# Altium footprint library 100uF_500V.PcbLib: 1 footprints
Each footprint in its own frame and in the unit in brackets; x right, y up, seen from the top. Pads: shape width x height; smd on the part's side, far side on the other; paste and mask are expansions set on the pad; w line width, h text height; cw(c..) or ccw(c..) is an arc to the next point about the centre after c.
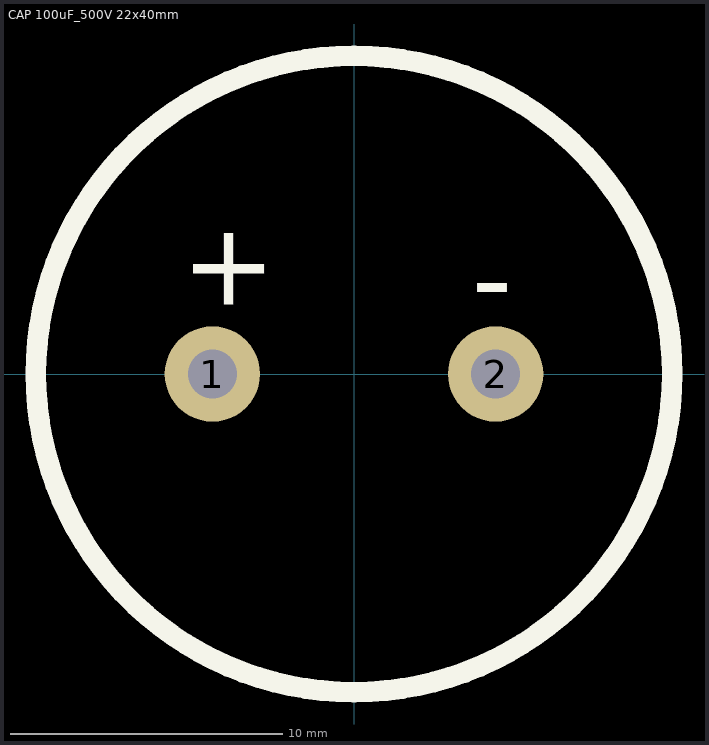
[diagram p0: the footprint, top view; thin cyan lines are the x and y axes]

## CAP 100uF_500V 22x40mm [mm]
pads (2):
  round 3.5 hole 1.8: 1(-5.2,0) 2(5.2,0)
Top Overlay:
  circle w0.762: c0,0 r11.684
  text "-" at 4.318,2.032 h3.05
  text "+" at -6.35,2.54 h3.05
3D body "elh107m400aq2aa.stp": height 33.02, standoff -5.77, extent -16.263,-16.263 16.263,16.263